# EAGLE library part FXMA2104 (library Synapseware)
FXMA2104UMX Translation - Voltage Levels Dual Supply 4-Bit Voltage Translator
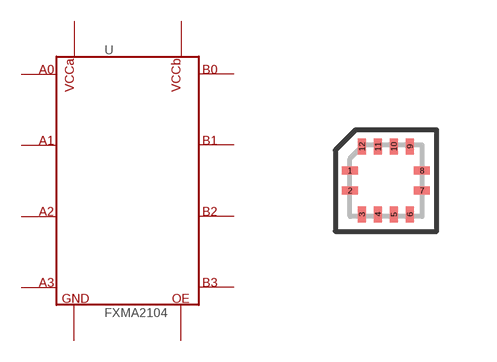
[diagram p10: symbol with the pads of UMLP-12; footprint UMLP-12]

Designator prefix -

## FXMA2104  [UMLP-12]
1  1
2  2
3  3
4  4
5  5
6  6
7  7
8  8
9  9
10  10
11  11
12  12

## Footprint UMLP-12 (pad centres in mm)
UMLP-12 12-Lead Ultrathin MLP, 1.8mm x 1.8mm
smd 0.406 x 0.203: 1 -0.9,0.25; 2 -0.9,-0.25; 7 0.9,-0.25; 8 0.9,0.25
smd 0.203 x 0.406: 3 -0.6,-0.85; 4 -0.2,-0.85; 5 0.2,-0.85; 6 0.6,-0.85; 9 0.6,0.85; 10 0.2,0.85; 11 -0.2,0.85; 12 -0.6,0.85